# EAGLE library part ESP11 (library esp8266-modules)
ESP8266 Wifi module 11
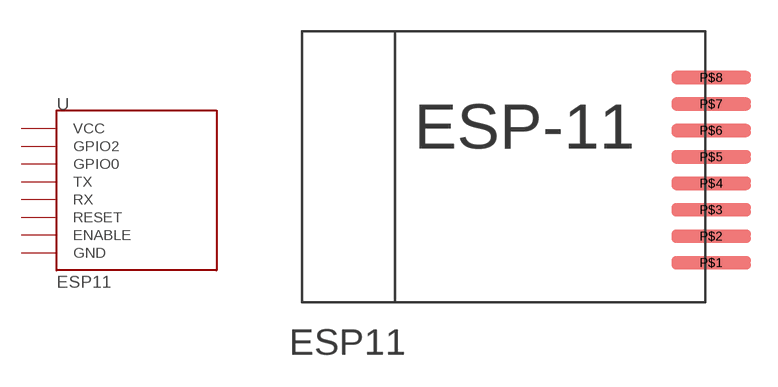
[diagram p4: symbol with the pads of ESP11; footprint ESP11]

Designator prefix -

## ESP11  [ESP11]
P$1  GND
P$2  ENABLE
P$3  RESET
P$4  RX
P$5  TX
P$6  GPIO0
P$7  GPIO2
P$8  VCC

## Footprint ESP11 (pad centres in mm)
ESP8266 Module 11
smd 3.81 x 0.635: P$1 10.113,-4.445; P$2 10.113,-3.175; P$3 10.113,-1.905; P$4 10.113,-0.635; P$5 10.113,0.635; P$6 10.113,1.905; P$7 10.113,3.175; P$8 10.113,4.445